# Altium footprint library SpaceLocator.PcbLib: 2 footprints
Each footprint in its own frame and in the unit in brackets; x right, y up, seen from the top. Pads: shape width x height; smd on the part's side, far side on the other; paste and mask are expansions set on the pad; w line width, h text height; cw(c..) or ccw(c..) is an arc to the next point about the centre after c.
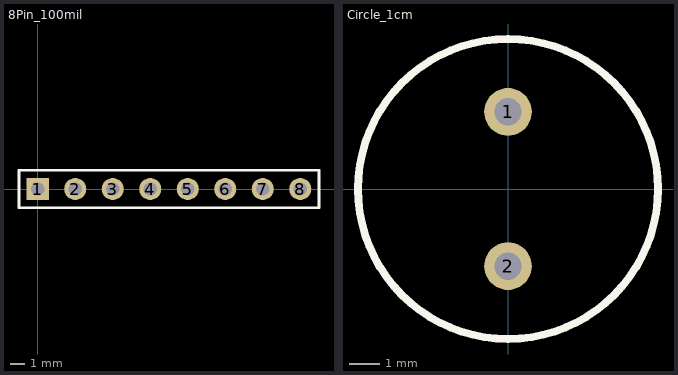
[diagram p0: the footprints below, top view; thin cyan lines are the x and y axes]

## 8Pin_100mil [mm]
height 7.62
pads (8):
  rect 1.5x1.5 hole 0.9: 1(0,0)
  round 1.5 hole 0.9: 2(2.54,0) 3(5.08,0) 4(7.62,0) 5(10.16,0) 6(12.7,0) 7(15.24,0) 8(17.78,0)
Top Overlay:
  lines w0.2: -1.27,-1.27 19.05,-1.27 19.05,1.27 -1.27,1.27 -1.27,-1.27
3D body: height 0.25, standoff 0, extent -0.635,0.635 -0.635,0.635
3D body: height 7.62, standoff 0.51, extent -1.27,-1.27 19.05,1.27

## Circle_1cm [mil]
pads (2):
  round 62 hole 35.43: 1(0,100) 2(0,-100)
Top Overlay:
  circle w10: c0,0 r194.49